# EAGLE library part VL822-Q7_DEVICE (library VL822-Q7)
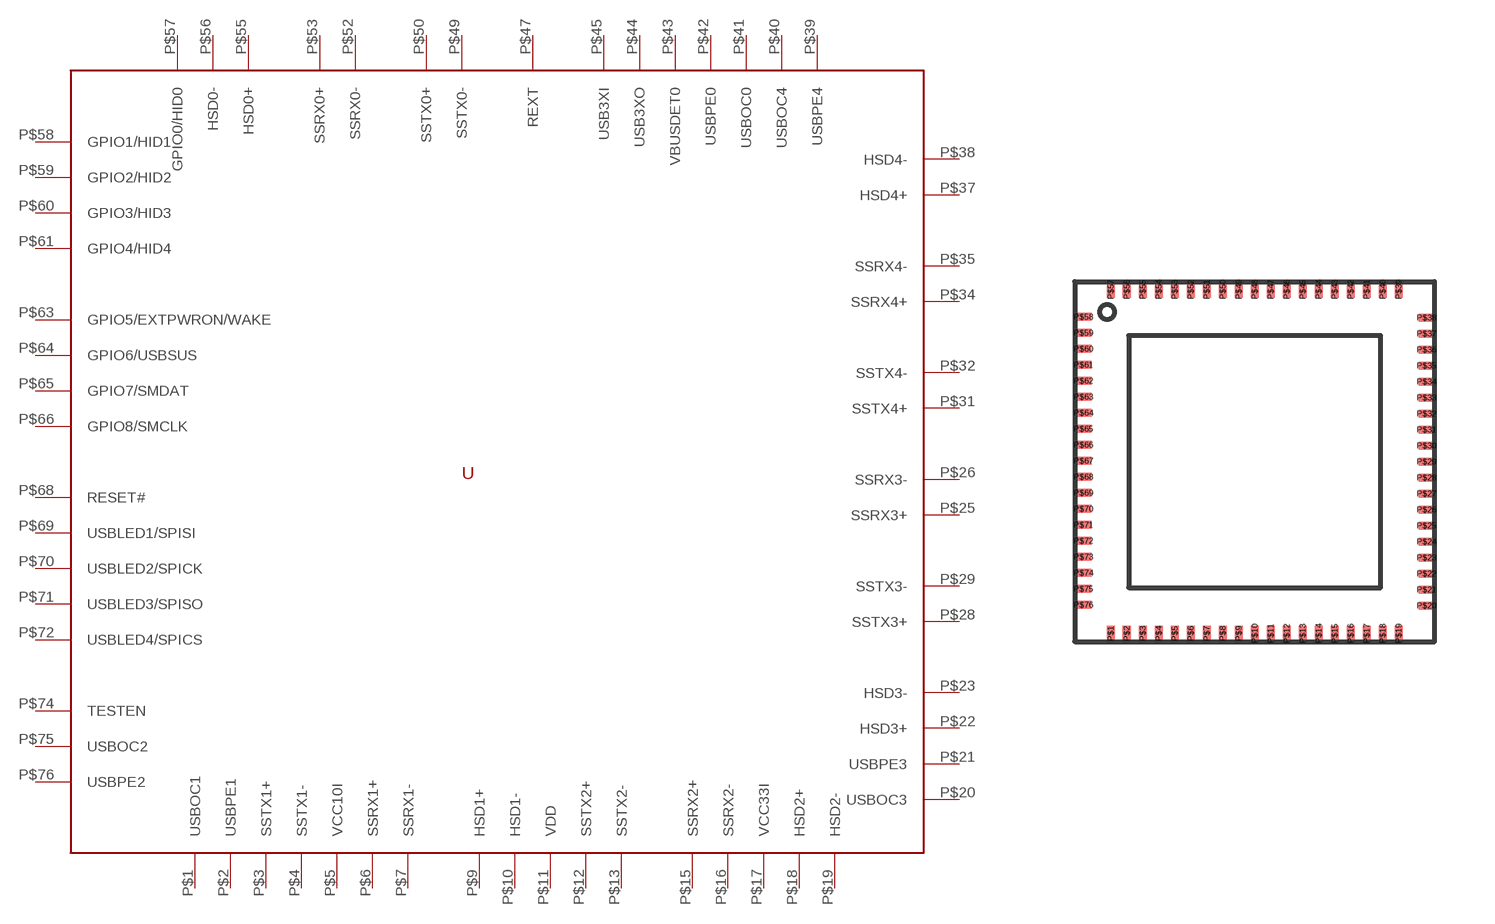
[diagram p0: symbol with the pads of VL822-Q7_FOOTPRINT; footprint VL822-Q7_FOOTPRINT]

Designator prefix -

## VL822-Q7_DEVICE  [VL822-Q7_FOOTPRINT]
P$1  USBOC1
P$2  USBPE1
P$3  SSTX1+
P$4  SSTX1-
P$5  VCC10I
P$6  SSRX1+
P$7  SSRX1-
P$9  HSD1+
P$10  HSD1-
P$11  VDD
P$12  SSTX2+
P$13  SSTX2-
P$15  SSRX2+
P$16  SSRX2-
P$17  VCC33I
P$18  HSD2+
P$19  HSD2-
P$20  USBOC3
P$21  USBPE3
P$22  HSD3+
P$23  HSD3-
P$25  SSRX3+
P$26  SSRX3-
P$28  SSTX3+
P$29  SSTX3-
P$31  SSTX4+
P$32  SSTX4-
P$34  SSRX4+
P$35  SSRX4-
P$37  HSD4+
P$38  HSD4-
P$39  USBPE4
P$40  USBOC4
P$41  USBOC0
P$42  USBPE0
P$43  VBUSDET0
P$44  USB3XO
P$45  USB3XI
P$47  REXT
P$49  SSTX0-
P$50  SSTX0+
P$52  SSRX0-
P$53  SSRX0+
P$55  HSD0+
P$56  HSD0-
P$57  GPIO0/HID0
P$58  GPIO1/HID1
P$59  GPIO2/HID2
P$60  GPIO3/HID3
P$61  GPIO4/HID4
P$63  GPIO5/EXTPWRON/WAKE
P$64  GPIO6/USBSUS
P$65  GPIO7/SMDAT
P$66  GPIO8/SMCLK
P$68  RESET#
P$69  USBLED1/SPISI
P$70  USBLED2/SPICK
P$71  USBLED3/SPISO
P$72  USBLED4/SPICS
P$74  TESTEN
P$75  USBOC2
P$76  USBPE2

## Footprint VL822-Q7_FOOTPRINT (pad centres in mm)
smd 0.2 x 0.4: P$1 -3.6,-4.1; P$2 -3.2,-4.1; P$3 -2.8,-4.1; P$4 -2.4,-4.1; P$5 -2,-4.1; P$6 -1.6,-4.1; P$7 -1.2,-4.1; P$8 -0.8,-4.1; P$9 -0.4,-4.1; P$10 0,-4.1; P$11 0.4,-4.1; P$12 0.8,-4.1; P$13 1.2,-4.1; P$14 1.6,-4.1; P$15 2,-4.1; P$16 2.4,-4.1; P$17 2.8,-4.1; P$18 3.2,-4.1; P$19 3.6,-4.1; P$39 3.6,4.5; P$40 3.2,4.5; P$41 2.8,4.5; P$42 2.4,4.5; P$43 2,4.5; P$44 1.6,4.5; P$45 1.2,4.5; P$46 0.8,4.5; P$47 0.4,4.5; P$48 0,4.5; P$49 -0.4,4.5; P$50 -0.8,4.5; P$51 -1.2,4.5; P$52 -1.6,4.5; P$53 -2,4.5; P$54 -2.4,4.5; P$55 -2.8,4.5; P$56 -3.2,4.5; P$57 -3.6,4.5
smd 0.4 x 0.2: P$20 4.3,-3.4; P$21 4.3,-3; P$22 4.3,-2.6; P$23 4.3,-2.2; P$24 4.3,-1.8; P$25 4.3,-1.4; P$26 4.3,-1; P$27 4.3,-0.6; P$28 4.3,-0.2; P$29 4.3,0.2; P$30 4.3,0.6; P$31 4.3,1; P$32 4.3,1.4; P$33 4.3,1.8; P$34 4.3,2.2; P$35 4.3,2.6; P$36 4.3,3; P$37 4.3,3.4; P$38 4.3,3.8; P$58 -4.28,3.82; P$59 -4.28,3.42; P$60 -4.28,3.02; P$61 -4.28,2.62; P$62 -4.28,2.22; P$63 -4.28,1.82; P$64 -4.28,1.42; P$65 -4.28,1.02; P$66 -4.28,0.62; P$67 -4.28,0.22; P$68 -4.28,-0.18; P$69 -4.28,-0.58; P$70 -4.28,-0.98; P$71 -4.28,-1.38; P$72 -4.28,-1.78; P$73 -4.28,-2.18; P$74 -4.28,-2.58; P$75 -4.28,-2.98; P$76 -4.28,-3.38